# Altium footprint library 1N4148.PcbLib: 1 footprints
Each footprint in its own frame and in the unit in brackets; x right, y up, seen from the top. Pads: shape width x height; smd on the part's side, far side on the other; paste and mask are expansions set on the pad; w line width, h text height; cw(c..) or ccw(c..) is an arc to the next point about the centre after c.
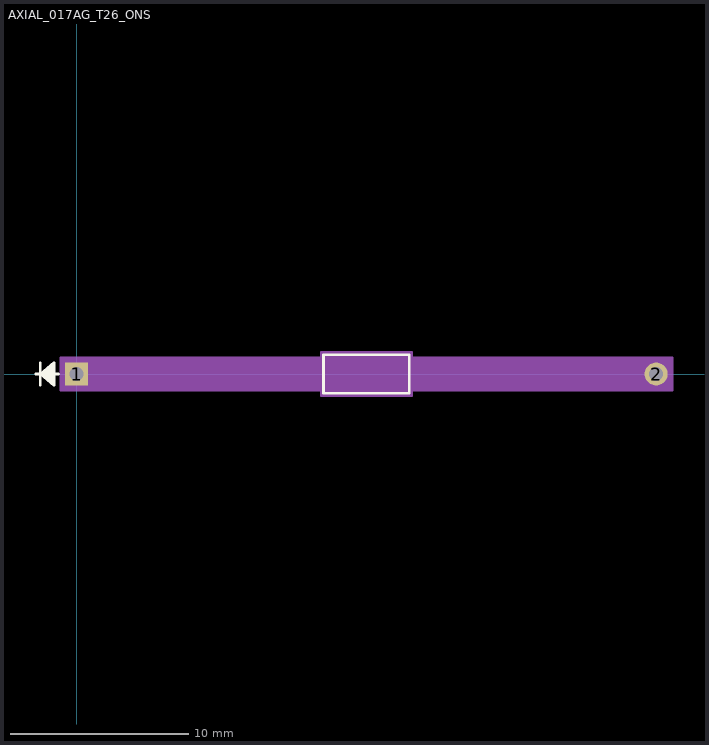
[diagram p0: the footprint, top view; thin cyan lines are the x and y axes]

## AXIAL_017AG_T26_ONS [mil]
pads (2):
  rect 51x51 hole 31 paste-25.5 mask+0: 1(0,0)
  round 51 hole 31 paste-25.5 mask+0: 2(1282,0)
Top Overlay:
  lines w6: -90.5,0 -40.5,0 ; -80.5,-25 -80.5,25 ; -50.5,-20 -80.5,0 ; -50.5,-15 -80.5,0 ; -50.5,-10 -80.5,0 ; -50.5,-5 -80.5,0 ; -50.5,5 -80.5,0 ; -50.5,10 -80.5,0 ; -50.5,15 -80.5,0 ; -50.5,20 -80.5,0 ; -80.5,0 -50.5,25 -50.5,-25 -80.5,0 ; 546,-42.5 736,-42.5 736,42.5 546,42.5 546,-42.5
  text ".Designator" at 503.5,-25 h50
Mechanical 13:
  lines w1: -90.5,0 -40.5,0 ; -80.5,-25 -80.5,25 ; -50.5,-20 -80.5,0 ; -50.5,-15 -80.5,0 ; -50.5,-10 -80.5,0 ; -50.5,-5 -80.5,0 ; -50.5,5 -80.5,0 ; -50.5,10 -80.5,0 ; -50.5,15 -80.5,0 ; -50.5,20 -80.5,0 ; 0,0 551,0 ; 731,0 1282,0 ; -80.5,0 -50.5,25 -50.5,-25 -80.5,0 ; 551,-37.5 731,-37.5 731,37.5 551,37.5 551,-37.5
  text ".Designator" at 503.5,-25 h50
Mechanical 15:
  region: 541,-35.5 -35.5,-35.5 -35.5,35.5 541,35.5 541,47.5 741,47.5 741,35.5 1317.5,35.5 1317.5,-35.5 741,-35.5 741,-47.5 541,-47.5
  lines w6: -35.5,-35.5 -35.5,35.5 541,35.5 541,47.5 741,47.5 741,35.5 1317.5,35.5 1317.5,-35.5 741,-35.5 741,-47.5 541,-47.5 541,-35.5 -35.5,-35.5
3D body "AXIAL_017AG_T26_ONS.step": height 75.04, standoff -100, extent -10.51,-37.33 1292.48,37.33